# EAGLE library part MMA7361L (library IC)
Freescale +-1.5g/+-6g Analog Three Axis Low-g Micromachined Accelerometer.
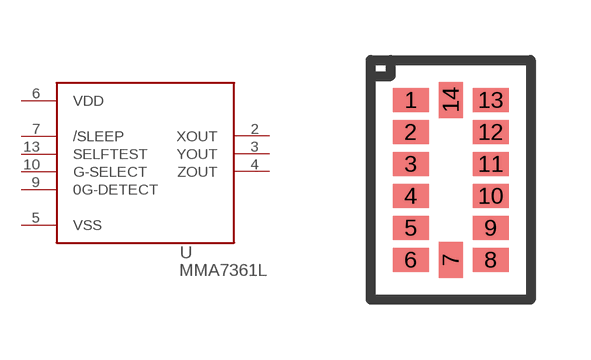
[diagram p159: symbol with the pads of LGA-14; footprint LGA-14]

Designator prefix -

## MMA7361L  [LGA-14]
2  XOUT
3  YOUT
4  ZOUT
5  VSS
6  VDD
7  /SLEEP
9  0G-DETECT
10  G-SELECT
13  SELFTEST

## Footprint LGA-14 (pad centres in mm)
14 lead Land Grid Array; case 1977-01
smd 0.9 x 0.6: 1 -1,2; 2 -1,1.2; 3 -1,0.4; 4 -1,-0.4; 5 -1,-1.2; 6 -1,-2; 8 1,-2; 9 1,-1.2; 10 1,-0.4; 11 1,0.4; 12 1,1.2; 13 1,2
smd 0.6 x 0.9: 7 0,-2; 14 0,2